# EAGLE library part SPARKRTC (library sibosop)
spark fun deadon rtc breakout board
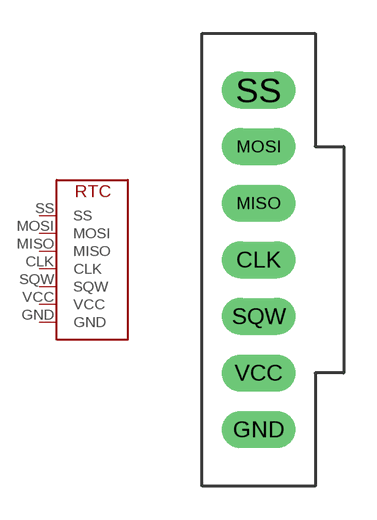
[diagram p7: symbol with the pads of SPARKRTC; footprint SPARKRTC]

Designator prefix IC

## SPARKRTC  [SPARKRTC]
CLK  CLK
GND  GND  pwr
MISO  MISO
MOSI  MOSI
SQW  SQW
SS  SS
VCC  VCC  pwr

## Footprint SPARKRTC (pad centres in mm)
drill 1.1 long: CLK 0,0; GND 0,-7.62; MISO 0,2.54; MOSI 0,5.08; SQW 0,-2.54; SS 0,7.62; VCC 0,-5.08